# EAGLE library part FX758 (library custom-parts)
FX758-2 5.8G 200mW 32CH FPV Wireless Audio Video AV Transmitter Module Factory number: FXT758-2 Voltage: 5V Power: 200mW Frequency: 5725MHz-5945MHz Size: 22x19 mm Modulation type: FM Working temperature: -10℃- +60℃ Transmission frequency group: A: Ch1:5725MHz Ch2:5745MHz Ch3:5765MHz Ch4:5785MHz Ch5:5805MHz Ch6:5825MHz Ch7:5845MHz Ch8:5865MHz B: Ch1:5733MHz Ch2:5752MHz Ch3:5771MHz Ch4:5790MHz Ch5:5809MHz Ch6:5828MHz Ch7:5847MHz Ch8:5866MHz C: Ch1:5645MHz Ch2:5665MHz Ch3:5685MHz Ch4:5705MHz Ch5:5885MHz Ch6:5905MHz Ch7:5925MHz Ch8:5945MHz
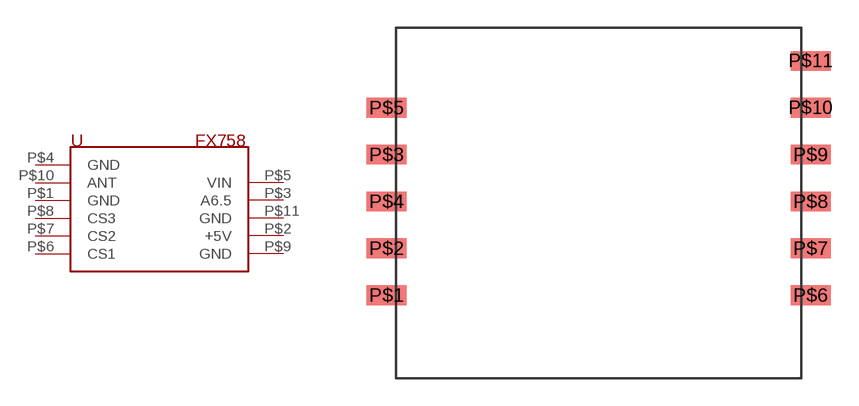
[diagram p1: symbol with the pads of FX758; footprint FX758]

Designator prefix -

## FX758  [FX758]
P$1  GND
P$2  +5V
P$3  A6.5
P$4  GND
P$5  VIN
P$6  CS1
P$7  CS2
P$8  CS3
P$9  GND
P$10  ANT
P$11  GND

## Footprint FX758 (pad centres in mm)
smd 2.184 x 1.067: P$1 -11.5,-5.5; P$2 -11.5,-2.96; P$3 -11.5,2.12; P$4 -11.5,-0.42; P$5 -11.5,4.66; P$6 11.5,-5.5; P$7 11.5,-2.96; P$8 11.5,-0.42; P$9 11.5,2.12; P$10 11.5,4.66; P$11 11.5,7.2